# Altium integrated library AUNOLayout.IntLib: 1 symbol
Pins are listed as number, name and electrical type; pins without a type are passive.

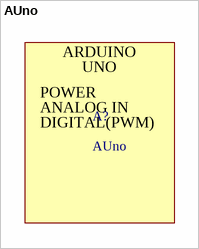
[diagram p0: symbol AUno]

## AUno
designator A?
footprint PCBComponent_1
footprint PCBComponent_1
text: ARDUINO; UNO; POWER; ANALOG IN; DIGITAL(PWM)